# EAGLE library part MAX103* (library maxim488_custom)
2.7V to 5.5V, Low-Power, 4-/12-Channel 2-Wire Serial 8-Bit ADCs Source: http://datasheets.maxim-ic.com/en/ds/MAX1036-MAX1039M.pdf
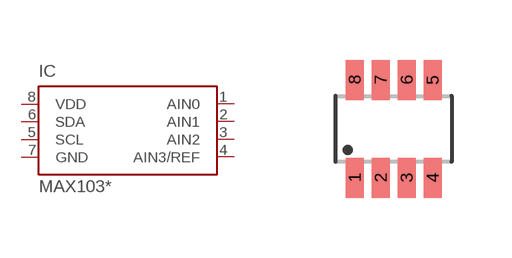
[diagram p394: symbol with the pads of SOT23-8L; footprint SOT23-8L]

Designator prefix IC

## MAX1036 (MPN: MAX1036EKA+T; OC_FARNELL: 1714868; OC_NEWARK: 67K3900), MAX1037 (MF: MAXIM; MPN: MAX1037EKA+T; OC_FARNELL: unknown; OC_NEWARK: 68K9410)  [SOT23-8L]
1  AIN0  in
2  AIN1  in
3  AIN2  in
4  AIN3/REF  in
5  SCL  in
6  SDA  in
7  GND  pwr
8  VDD  pwr

## Footprint SOT23-8L (pad centres in mm)
SC70/SOT23-8 Source: http://datasheets.maxim-ic.com/en/ds/MAX4335-MAX4338.pdf
smd 0.45 x 1: 1 -0.975,-1.225; 2 -0.325,-1.225; 3 0.325,-1.225; 4 0.975,-1.225; 5 0.975,1.225; 6 0.325,1.225; 7 -0.325,1.225; 8 -0.975,1.225